# Altium schematic symbol library VLMB1500-GS08.SchLib: 1 symbol
Pins are listed as number, name and electrical type; pins without a type are passive.

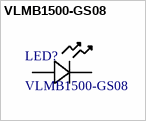
[diagram p0: symbol VLMB1500-GS08]

## VLMB1500-GS08
designator LED?
CHIPLED(0402) BLUE ULTRABRIGHT -e4; Manufacturer_Name: Vishay; Copyright: Copyright (C) 2025 Ultra Librarian. All rights reserved.; MPN: VLMB1500-GS08
footprint LED_500-GS08_VIS
pins: 1, 2